# EAGLE library part TPS63070RNMR (library edrtech_lib)
Wide Input Voltage (2V-16V) Buck-Boost Converter Source: Datasheet <http://www.ti.com/lit/gpn/tps63070>
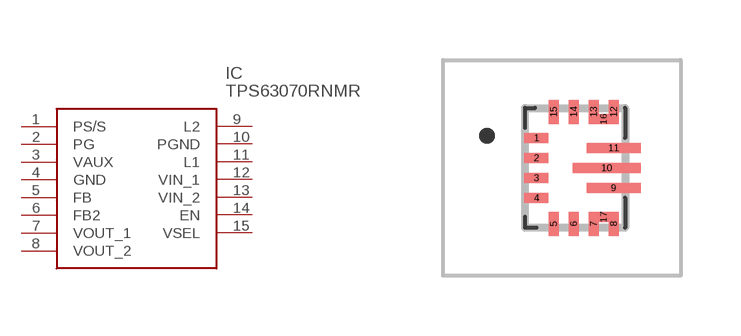
[diagram p27: symbol with the pads of TPS630701RNMR; footprint TPS630701RNMR]

Designator prefix IC

## TPS63070RNMR (ARROW_PART_NUMBER: TPS63070RNMR; ARROW_PRICE-STOCK: https://www.arrow.com/en/products/tps63070rnmr/texas-instruments?region=nac; DESCRIPTION: Wide Input Voltage (2V-16V) Buck-Boost Converter; HEIGHT: mm; MANUFACTURER_NAME: Texas Instruments; MANUFACTURER_PART_NUMBER: TPS63070RNMR; MOUSER_PART_NUMBER: 595-TPS63070RNMR; MOUSER_PRICE-STOCK: https://www.mouser.co.uk/ProductDetail/Texas-Instruments/TPS63070RNMR?qs=LuYMPh7GGMS51GHntBDRnQ%3D%3D)  [TPS630701RNMR]
1  PS/S
2  PG
3  VAUX
4  GND
5  FB
6  FB2
7  VOUT_1
8  VOUT_2
9  L2
10  PGND
11  L1
12  VIN_1
13  VIN_2
14  EN
15  VSEL

## Footprint TPS630701RNMR (pad centres in mm)
RNM0015A
smd 0.6 x 0.25: 1 -0.438,0.75; 2 -0.438,0.25; 3 -0.438,-0.25; 4 -0.438,-0.75
smd 0.25 x 0.6: 5 -0.012,-1.4; 6 0.488,-1.4; 7 0.988,-1.4; 8 1.488,-1.4; 12 1.488,1.4; 13 0.988,1.4; 14 0.488,1.4; 15 -0.012,1.4
smd 1.35 x 0.25: 9 1.488,-0.5; 11 1.488,0.5
smd 1.7 x 0.25: 10 1.313,0
smd 0.25 x 0.25: 16 1.238,1.225; 17 1.238,-1.225